# Altium schematic symbol library ST485AB.SchLib: 1 symbol
Pins are listed as number, name and electrical type; pins without a type are passive.

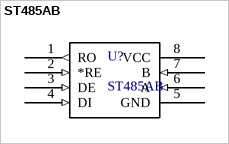
[diagram p0: symbol ST485AB]

## ST485AB
designator U?
footprint SOIC-8
pins: 1 RO (out), 2 *RE (in), 3 DE (in), 4 DI (in), 5 GND (power), 6 A (in), 7 B (in), 8 VCC (power)